# EAGLE library part KLEMME-2_7-BRUECKE (library e-klemmen)
Klemme 7-pol. mit Brückenhinweis
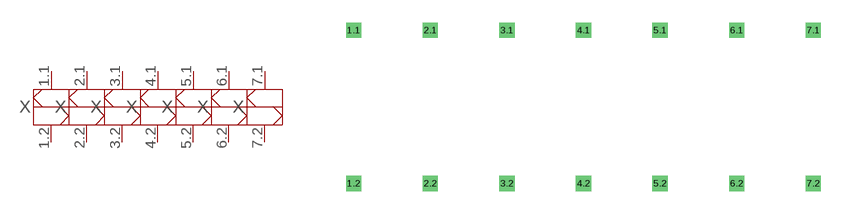
[diagram p89: symbol with the pads of KLEMME-2_7-BRUECKE; footprint KLEMME-2_7-BRUECKE]

Designator prefix X; gates 1=KLEMME-2_1-BRUECKE 2=KLEMME-2_2-BRUECKE 3=KLEMME-2_3-BRUECKE 4=KLEMME-2_4-BRUECKE 5=KLEMME-2_5-BRUECKE 6=KLEMME-2_6-BRUECKE 7=KLEMME-2_7-BRUECKE

## KLEMME-2_7-BRUECKE  [KLEMME-2_7-BRUECKE]
1.1  1:1  pas
1.2  1:2  pas
2.1  2:1  pas
2.2  2:2  pas
3.1  3:1  pas
3.2  3:2  pas
4.1  4:1  pas
4.2  4:2  pas
5.1  5:1  pas
5.2  5:2  pas
6.1  6:1  pas
6.2  6:2  pas
7.1  7:1  pas
7.2  7:2  pas

## Footprint KLEMME-2_7-BRUECKE (pad centres in mm)
Dummy
drill 0.5 pad 1 square: 1.1 0,5.08; 1.2 0,-5.08; 2.1 5.08,5.08; 2.2 5.08,-5.08; 3.1 10.16,5.08; 3.2 10.16,-5.08; 4.1 15.24,5.08; 4.2 15.24,-5.08; 5.1 20.32,5.08; 5.2 20.32,-5.08; 6.1 25.4,5.08; 6.2 25.4,-5.08; 7.1 30.48,5.08; 7.2 30.48,-5.08